# EAGLE library part 2P2T_LATCHING (library jasons_stuff)
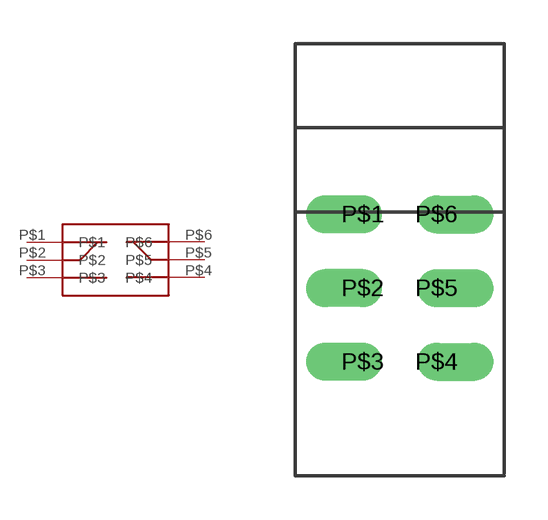
[diagram p46: symbol with the pads of 2P2T_LATCHING; footprint 2P2T_LATCHING]

Designator prefix -

## 2P2T_LATCHING  [2P2T_LATCHING]
P$1  P$1
P$2  P$2
P$3  P$3
P$4  P$4
P$5  P$5
P$6  P$6

## Footprint 2P2T_LATCHING (pad centres in mm)
drill 0.8 offset: P$1 -1.27,0; P$2 -1.27,-2.54; P$3 -1.27,-5.08; P$4 1.27,-5.08; P$5 1.27,-2.54; P$6 1.27,0